# Altium footprint library WP-TGTR.PcbLib: 8 footprints
Each footprint in its own frame and in the unit in brackets; x right, y up, seen from the top. Pads: shape width x height; smd on the part's side, far side on the other; paste and mask are expansions set on the pad; w line width, h text height; cw(c..) or ccw(c..) is an arc to the next point about the centre after c.
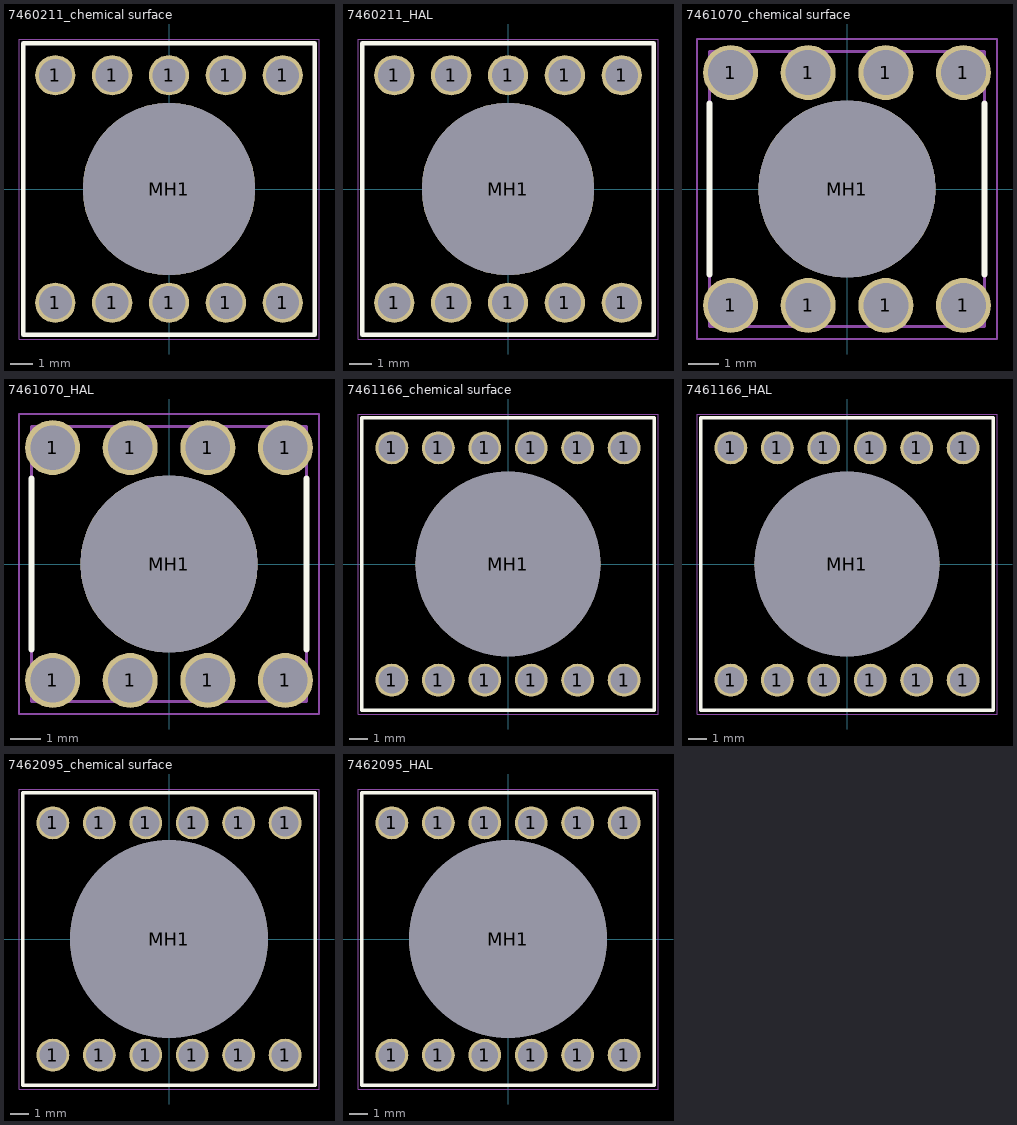
[diagram p0: the footprints below, top view; thin cyan lines are the x and y axes]

## 7460211_chemical surface [mm] "ID7.3mm, thrh 3.1mm"
height 3.1
pads (11):
  round 1.8 hole 1.475: 1(-5.08,-5.08) 1(-5.08,5.08) 1(-2.54,-5.08) 1(-2.54,5.08) 1(0,-5.08) 1(0,5.08) 1(2.54,-5.08) 1(2.54,5.08) 1(5.08,-5.08) 1(5.08,5.08)
  round 7.7 hole 7.7 unplated: MH1(0,0)
Top Overlay:
  lines w0.2: -6.5,-6.5 -6.5,6.5 6.5,6.5 6.5,-6.5 -6.5,-6.5
Top Designator:
  text ".Designator" at -7.498,-0.5 h1.5
Top Component Outline:
  lines w0.1: -6.5,-6.5 6.5,-6.5 6.5,6.5 -6.5,6.5 -6.5,-6.5
Top 3D Body:
  lines w0.1: -6.5,-6.5 -6.5,6.5 6.5,6.5 6.5,-6.5 -6.5,-6.5
Top Courtyard:
  lines w0.05: -0.5,0 0.5,0 ; 0,-0.5 0,0.5 ; -6.7,-6.7 -6.7,6.7 6.7,6.7 6.7,-6.7 -6.7,-6.7
3D body "7460211.stp": height 3.1, standoff -3.5, extent -6.5,-6.5 6.5,6.5

## 7460211_HAL [mm] "ID7.3mm, thrh 3.1mm"
height 3.1
pads (11):
  round 1.8 hole 1.45: 1(-5.08,-5.08) 1(-5.08,5.08) 1(-2.54,-5.08) 1(-2.54,5.08) 1(0,-5.08) 1(0,5.08) 1(2.54,-5.08) 1(2.54,5.08) 1(5.08,-5.08) 1(5.08,5.08)
  round 7.7 hole 7.7 unplated: MH1(0,0)
Top Overlay:
  lines w0.2: -6.5,-6.5 -6.5,6.5 6.5,6.5 6.5,-6.5 -6.5,-6.5
Top Designator:
  text ".Designator" at -7.498,-0.5 h1.5
Top Component Outline:
  lines w0.1: -6.5,-6.5 -6.5,6.5 6.5,6.5 6.5,-6.5 -6.5,-6.5
Top 3D Body:
  lines w0.1: -6.5,-6.5 6.5,-6.5 6.5,6.5 -6.5,6.5 -6.5,-6.5
Top Courtyard:
  lines w0.05: -0.5,0 0.5,0 ; 0,-0.5 0,0.5 ; -6.7,-6.7 -6.7,6.7 6.7,6.7 6.7,-6.7 -6.7,-6.7
3D body "7460211.stp": height 3.1, standoff -3.5, extent -6.5,-6.5 6.5,6.5

## 7461070_chemical surface [mm] "ID5.5mm, thrh 3.1mm"
height 3.1
pads (9):
  round 1.8 hole 1.475: 1(-3.81,-3.81) 1(-3.81,3.81) 1(-1.27,-3.81) 1(-1.27,3.81) 1(1.27,-3.81) 1(1.27,3.81) 1(3.81,-3.81) 1(3.81,3.81)
  round 5.8 hole 5.8 unplated: MH1(0,0)
Top Overlay:
  lines w0.2: -4.5,-2.8 -4.5,2.8 ; 4.5,-2.8 4.5,2.8
Top Designator:
  text ".Designator" at -7.498,-0.5 h1.5
Top Component Outline:
  lines w0.1: -4.5,-4.5 4.5,-4.5 4.5,4.5 -4.5,4.5 -4.5,-4.5
Top 3D Body:
  lines w0.1: -4.5,-4.5 -4.5,4.5 4.5,4.5 4.5,-4.5 -4.5,-4.5
Top Courtyard:
  lines w0.05: -0.5,0 0.5,0 ; 0,-0.5 0,0.5 ; -4.91,-4.91 4.91,-4.91 4.91,4.91 -4.91,4.91 -4.91,-4.91
3D body "7461070.stp": height 3.1, standoff -3.5, extent -4.5,-4.5 4.5,4.5

## 7461070_HAL [mm] "ID5.5mm, thrh 3.1mm"
height 3.1
pads (9):
  round 1.8 hole 1.45: 1(-3.81,-3.81) 1(-3.81,3.81) 1(-1.27,-3.81) 1(-1.27,3.81) 1(1.27,-3.81) 1(1.27,3.81) 1(3.81,-3.81) 1(3.81,3.81)
  round 5.8 hole 5.8 unplated: MH1(0,0)
Top Overlay:
  lines w0.2: -4.5,-2.8 -4.5,2.8 ; 4.5,-2.8 4.5,2.8
Top Designator:
  text ".Designator" at -7.498,-0.5 h1.5
Top Component Outline:
  lines w0.1: -4.5,-4.5 -4.5,4.5 4.5,4.5 4.5,-4.5 -4.5,-4.5
Top 3D Body:
  lines w0.1: -4.5,-4.5 -4.5,4.5 4.5,4.5 4.5,-4.5 -4.5,-4.5
Top Courtyard:
  lines w0.05: -0.5,0 0.5,0 ; 0,-0.5 0,0.5 ; -4.91,-4.91 -4.91,4.91 4.91,4.91 4.91,-4.91 -4.91,-4.91
3D body "7461070.stp": height 3.1, standoff -3.5, extent -4.5,-4.5 4.5,4.5

## 7461166_chemical surface [mm] "ID9.8mm, thrh 3.1mm"
height 3.1
pads (13):
  round 1.8 hole 1.475: 1(-6.35,-6.35) 1(-6.35,6.35) 1(-3.81,-6.35) 1(-3.81,6.35) 1(-1.27,-6.35) 1(-1.27,6.35) 1(1.27,-6.35) 1(1.27,6.35) 1(3.81,-6.35) 1(3.81,6.35) 1(6.35,-6.35) 1(6.35,6.35)
  round 10.1 hole 10.1 unplated: MH1(0,0)
Top Overlay:
  lines w0.2: -8,-8 -8,8 8,8 8,-8 -8,-8
Top Designator:
  text ".Designator" at -7.498,-0.5 h1.5
Top Component Outline:
  lines w0.1: -8,-8 8,-8 8,8 -8,8 -8,-8
Top 3D Body:
  lines w0.1: -8,-8 -8,8 8,8 8,-8 -8,-8
Top Courtyard:
  lines w0.05: -0.5,0 0.5,0 ; 0,-0.5 0,0.5 ; -8.2,-8.2 8.2,-8.2 8.2,8.2 -8.2,8.2 -8.2,-8.2
3D body "7461166.stp": height 3.1, standoff -3.5, extent -8,-8 8,8

## 7461166_HAL [mm] "ID9.8mm, thrh 3.1mm"
height 3.1
pads (13):
  round 1.8 hole 1.45: 1(-6.35,-6.35) 1(-6.35,6.35) 1(-3.81,-6.35) 1(-3.81,6.35) 1(-1.27,-6.35) 1(-1.27,6.35) 1(1.27,-6.35) 1(1.27,6.35) 1(3.81,-6.35) 1(3.81,6.35) 1(6.35,-6.35) 1(6.35,6.35)
  round 10.1 hole 10.1 unplated: MH1(0,0)
Top Overlay:
  lines w0.2: -8,-8 -8,8 8,8 8,-8 -8,-8
Top Designator:
  text ".Designator" at -7.498,-0.5 h1.5
Top Component Outline:
  lines w0.1: -8,-8 8,-8 8,8 -8,8 -8,-8
Top 3D Body:
  lines w0.1: -8,-8 8,-8 8,8 -8,8 -8,-8
Top Courtyard:
  lines w0.05: -0.5,0 0.5,0 ; 0,-0.5 0,0.5 ; -8.2,-8.2 8.2,-8.2 8.2,8.2 -8.2,8.2 -8.2,-8.2
3D body "7461166.stp": height 3.1, standoff -3.5, extent -8,-8 8,8

## 7462095_chemical surface [mm] "ID10.5mm, thrh 3.1mm"
height 3.1
pads (13):
  round 1.8 hole 1.475: 1(-6.35,-6.35) 1(-6.35,6.35) 1(-3.81,-6.35) 1(-3.81,6.35) 1(-1.27,-6.35) 1(-1.27,6.35) 1(1.27,-6.35) 1(1.27,6.35) 1(3.81,-6.35) 1(3.81,6.35) 1(6.35,-6.35) 1(6.35,6.35)
  round 10.8 hole 10.8 unplated: MH1(0,0)
Top Overlay:
  lines w0.2: -8,-8 -8,8 8,8 8,-8 -8,-8
Top Designator:
  text ".Designator" at -7.498,-0.5 h1.5
Top Component Outline:
  lines w0.1: -8,-8 8,-8 8,8 -8,8 -8,-8
Top 3D Body:
  lines w0.1: -8,-8 -8,8 8,8 8,-8 -8,-8
Top Courtyard:
  lines w0.05: -0.5,0 0.5,0 ; 0,-0.5 0,0.5 ; -8.2,-8.2 -8.2,8.2 8.2,8.2 8.2,-8.2 -8.2,-8.2
3D body "7462095.stp": height 3.1, standoff -3.5, extent -8,-8 8,8

## 7462095_HAL [mm] "ID10.5mm, thrh 3.1mm"
height 3.1
pads (13):
  round 1.8 hole 1.45: 1(-6.35,-6.35) 1(-6.35,6.35) 1(-3.81,-6.35) 1(-3.81,6.35) 1(-1.27,-6.35) 1(-1.27,6.35) 1(1.27,-6.35) 1(1.27,6.35) 1(3.81,-6.35) 1(3.81,6.35) 1(6.35,-6.35) 1(6.35,6.35)
  round 10.8 hole 10.8 unplated: MH1(0,0)
Top Overlay:
  lines w0.2: -8,-8 -8,8 8,8 8,-8 -8,-8
Top Designator:
  text ".Designator" at -7.498,-0.5 h1.5
Top Component Outline:
  lines w0.1: -8,-8 -8,8 8,8 8,-8 -8,-8
Top 3D Body:
  lines w0.1: -8,-8 8,-8 8,8 -8,8 -8,-8
Top Courtyard:
  lines w0.05: -0.5,0 0.5,0 ; 0,-0.5 0,0.5 ; -8.2,-8.2 -8.2,8.2 8.2,8.2 8.2,-8.2 -8.2,-8.2
3D body "7462095.stp": height 3.1, standoff -3.5, extent -8,-8 8,8